# EAGLE library part PIC16F914/917-I/ML (library microchip2)
44-Pin Flash-Based, 8-Bit CMOS Microcontrollers with nanoWatt Technology
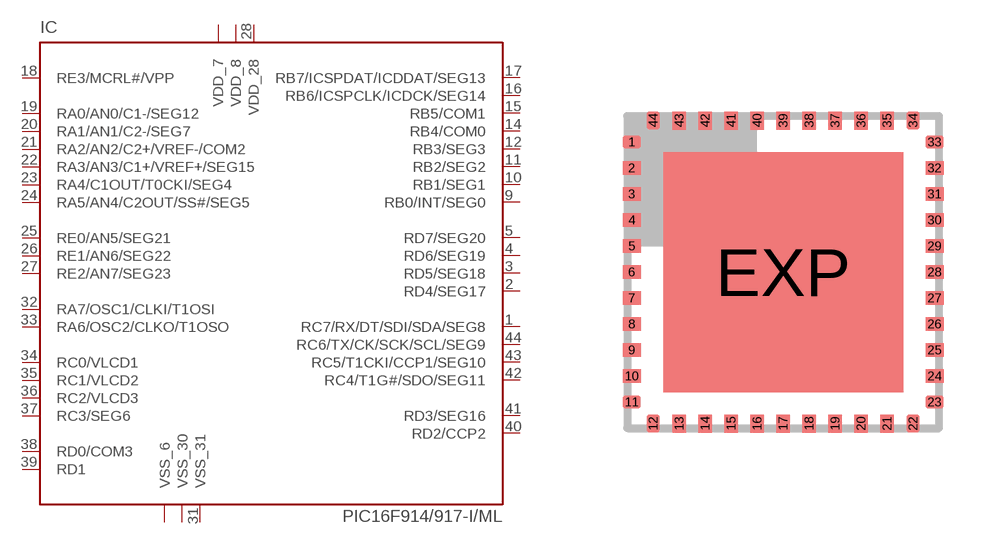
[diagram p186: symbol with the pads of QFN44ML8X8; footprint QFN44ML8X8]

Designator prefix IC

## PIC16F914/917-I/ML914/917-I/ML  [QFN44ML8X8]
1  RC7/RX/DT/SDI/SDA/SEG8
2  RD4/SEG17
3  RD5/SEG18
4  RD6/SEG19
5  RD7/SEG20
6  VSS_6  pwr
7  VDD_7  pwr
8  VDD_8  pwr
9  RB0/INT/SEG0
10  RB1/SEG1
11  RB2/SEG2
12  RB3/SEG3
14  RB4/COM0
15  RB5/COM1
16  RB6/ICSPCLK/ICDCK/SEG14
17  RB7/ICSPDAT/ICDDAT/SEG13
18  RE3/MCRL#/VPP  in
19  RA0/AN0/C1-/SEG12
20  RA1/AN1/C2-/SEG7
21  RA2/AN2/C2+/VREF-/COM2
22  RA3/AN3/C1+/VREF+/SEG15
23  RA4/C1OUT/T0CKI/SEG4
24  RA5/AN4/C2OUT/SS#/SEG5
25  RE0/AN5/SEG21
26  RE1/AN6/SEG22
27  RE2/AN7/SEG23
28  VDD_28  pwr
30  VSS_30  pwr
31  VSS_31  pwr
32  RA7/OSC1/CLKI/T1OSI
33  RA6/OSC2/CLKO/T1OSO
34  RC0/VLCD1
35  RC1/VLCD2
36  RC2/VLCD3
37  RC3/SEG6
38  RD0/COM3
39  RD1
40  RD2/CCP2
41  RD3/SEG16
42  RC4/T1G#/SDO/SEG11
43  RC5/T1CKI/CCP1/SEG10
44  RC6/TX/CK/SCK/SCL/SEG9

## Footprint QFN44ML8X8 (pad centres in mm)
44-Lead Plastic Quad Flat No Lead Package (ML) 8x8 mm Body (QFN) Source: http://ww1.microchip.com/downloads/en/devicedoc/39632c.pdf
smd 0.45 x 0.33: 1 -3.788,3.25; 2 -3.788,2.6; 3 -3.788,1.95; 4 -3.788,1.3; 5 -3.788,0.65; 6 -3.788,0; 7 -3.788,-0.65; 8 -3.788,-1.3; 9 -3.788,-1.95; 10 -3.788,-2.6; 11 -3.788,-3.25; 23 3.788,-3.25; 24 3.788,-2.6; 25 3.788,-1.95; 26 3.788,-1.3; 27 3.788,-0.65; 28 3.788,0; 29 3.788,0.65; 30 3.788,1.3; 31 3.788,1.95; 32 3.788,2.6; 33 3.788,3.25
smd 0.33 x 0.45: 12 -3.25,-3.788; 13 -2.6,-3.788; 14 -1.95,-3.788; 15 -1.3,-3.788; 16 -0.65,-3.788; 17 0,-3.788; 18 0.65,-3.788; 19 1.3,-3.788; 20 1.95,-3.788; 21 2.6,-3.788; 22 3.25,-3.788; 34 3.25,3.788; 35 2.6,3.788; 36 1.95,3.788; 37 1.3,3.788; 38 0.65,3.788; 39 0,3.788; 40 -0.65,3.788; 41 -1.3,3.788; 42 -1.95,3.788; 43 -2.6,3.788; 44 -3.25,3.788
smd 6 x 6: EXP 0,0